# Altium schematic symbol library MIC5504-3P3YM5-TR.SchLib: 1 symbol
Pins are listed as number, name and electrical type; pins without a type are passive.

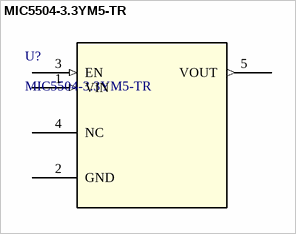
[diagram p0: symbol MIC5504-3.3YM5-TR]

## MIC5504-3.3YM5-TR
designator U?
Description; Manufacturer_Name: Microchip; Copyright: Copyright (C) 2025 Ultra Librarian. All rights reserved.; Manufacturer_Part_Number: MIC5504-3.3YM5-TR; RefDes: RefDes; Type: Type
footprint SOT-23-5_MC_MCH
pins: 1 VIN (in), 2 GND (power), 3 EN (in), 4 NC, 5 VOUT (out)